# Altium integrated library ERA8ARB102V.IntLib: 1 symbol
Pins are listed as number, name and electrical type; pins without a type are passive.

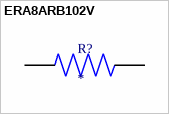
[diagram p0: symbol ERA8ARB102V]

## ERA8ARB102V
designator R?
MP: ERA8ARB102V; Package: None; Availability: Unavailable; Price: None; Value: *
footprint RES_ERA8ARB102V
pins: 1, 2